# EAGLE library part DS_CARTRIDGE (library nds_cart1)
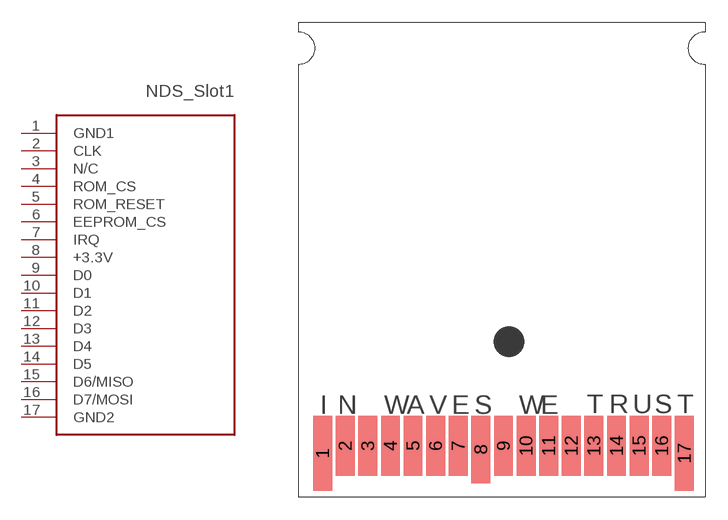
[diagram p0: symbol with the pads of DS-CARTRIDGE; footprint DS-CARTRIDGE]

Designator prefix -

## DS_CARTRIDGE  [DS-CARTRIDGE]
1  GND1  pwr
2  CLK  oc
3  N/C  nc
4  ROM_CS
5  ROM_RESET
6  EEPROM_CS
7  IRQ
8  +3.3V
9  D0
10  D1
11  D2
12  D3
13  D4
14  D5
15  D6/MISO
16  D7/MOSI
17  GND2

## Footprint DS-CARTRIDGE (pad centres in mm)
smd 1.25 x 5: 1 1.625,2.9; 17 25.625,2.9
smd 1.25 x 4: 2 3.125,3.4; 3 4.625,3.4; 4 6.125,3.4; 5 7.625,3.4; 6 9.125,3.4; 7 10.625,3.4; 9 13.625,3.4; 10 15.125,3.4; 11 16.625,3.4; 12 18.125,3.4; 13 19.625,3.4; 14 21.125,3.4; 15 22.625,3.4; 16 24.125,3.4
smd 1.25 x 4.5: 8 12.125,3.15